# Altium footprint library Cuk_3ph_control.PcbLib: 28 footprints (part 1 of 2)
Each footprint in its own frame and in the unit in brackets; x right, y up, seen from the top. Pads: shape width x height; smd on the part's side, far side on the other; paste and mask are expansions set on the pad; w line width, h text height; cw(c..) or ccw(c..) is an arc to the next point about the centre after c.
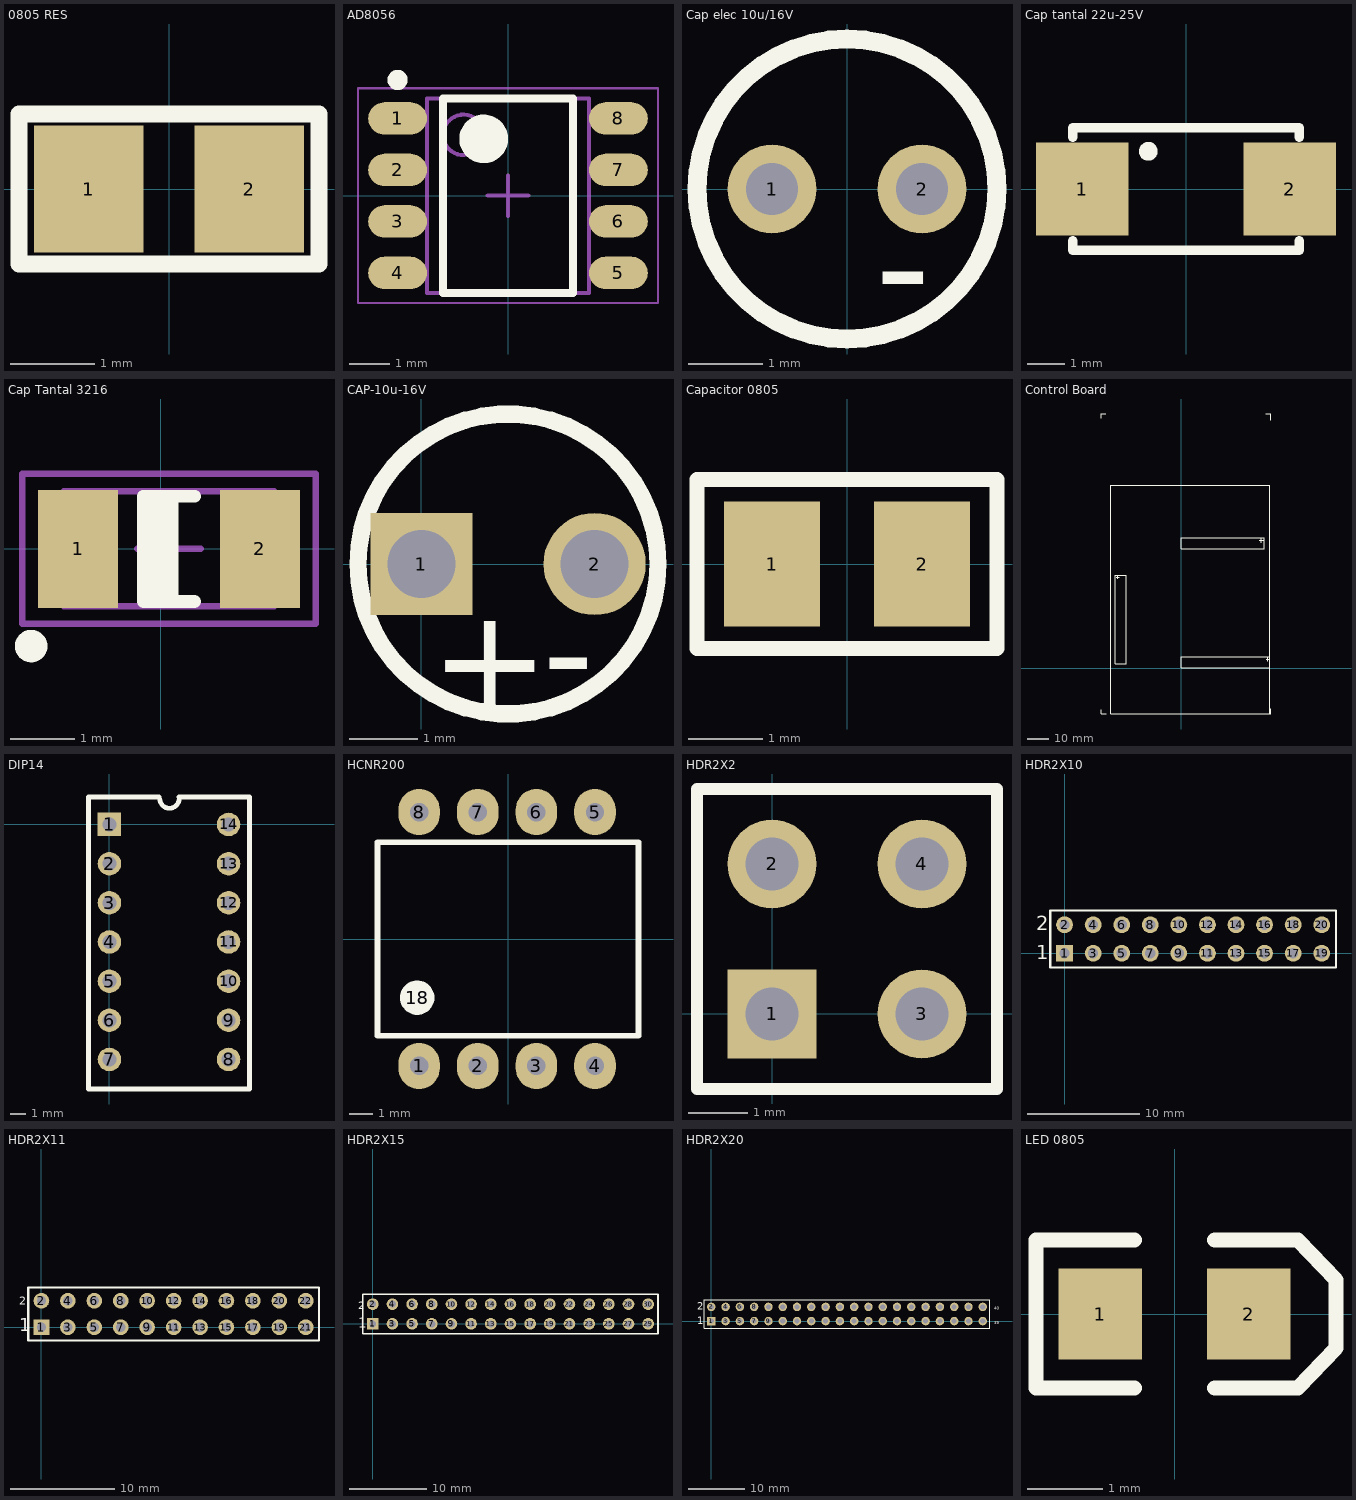
[diagram p0: the footprints below, top view; thin cyan lines are the x and y axes]

## 0805 RES [mm]
pads (2):
  rect 1.3x1.5 smd: 1(-0.95,0) 2(0.95,0)
Top Overlay:
  lines w0.2: -1.778,-0.889 1.778,-0.889 1.778,0.889 -1.778,0.889 -1.778,-0.865

## AD8056 [mm]
height 1.75
pads (8):
  oval 1.45x0.8 smd: 1(-2.725,1.905) 2(-2.725,0.635) 3(-2.725,-0.635) 4(-2.725,-1.905) 5(2.725,-1.905) 6(2.725,-0.635) 7(2.725,0.635) 8(2.725,1.905)
Top Overlay:
  circle w0.25: c-2.725,2.855 r0.125
  circle w0.6: c-0.6,1.4 r0.3
  lines w0.2: -1.6,-2.4 -1.6,2.4 1.6,2.4 1.6,-2.4 -1.6,-2.4
Mechanical 13:
  circle w0.1: c-1.1,1.5 r0.5
  lines w0.1: -2,-2.4 -2,2.4 2,2.4 2,-2.4 -2,-2.4
Mechanical 15:
  lines w0.05: -3.7,-2.65 -3.7,2.65 3.7,2.65 3.7,-2.65 -3.7,-2.65
  lines w0.1: -0.5,0 0.5,0 ; 0,-0.5 0,0.5
3D body: height 1.75, standoff 0.1, extent -2,-2.4 2,2.4

## Cap elec 10u/16V [mm]
height 5.3
pads (2):
  round 1.2 hole 0.7: 1(-1.016,0) 2(1.016,0)
Top Overlay:
  circle w0.254: c0,0 r2.032
  text "-" at 0.381,-1.778 h1.52

## Cap tantal 22u-25V [mm]
height 2.6
pads (2):
  rect 2.5x2.5 smd: 1(-2.794,0) 2(2.794,0)
Top Overlay:
  circle w0.254: c-1.016,1.016 r0.127
  lines w0.254: -3.048,-1.397 -3.048,-1.651 3.048,-1.651 3.048,-1.397 ; -3.048,1.397 -3.048,1.651 3.048,1.651 3.048,1.397

## Cap Tantal 3216 [mm]
pads (2):
  rect 1.25x1.85 smd: 1(-1.298,0) 2(1.552,0)
Top Overlay:
  circle w0.254: c-2.032,-1.524 r0.127
  rectangle: -0.273,-0.834 0.277,0.816
  lines w0.2: 0.527,-0.825 -0.273,-0.825 -0.273,0.825 0.527,0.825
Mechanical 13:
  lines w0.1: -1.523,-0.9 -1.523,0.9 1.777,0.9 1.777,-0.9 -1.523,-0.9
Mechanical 15:
  lines w0.1: -0.373,0 0.627,0 ; 0.127,-0.5 0.127,0.5 ; -2.173,-1.175 -2.173,1.175 2.427,1.175 2.427,-1.175 -2.173,-1.175
3D body: height 1.6, standoff 0, extent -1.523,-0.9 1.777,0.9

## CAP-10u-16V [mm]
pads (2):
  rect 1.5x1.5 hole 1: 1(0,0)
  round 1.5 hole 1: 2(2.54,0)
Top Overlay:
  circle w0.254: c1.27,0 r2.2
  text "+" at 0.127,-2.159 h1.52
  text "-" at 1.778,-2.032 h1.52

## Capacitor 0805 [mm]
pads (2):
  rect 1.3x1.7 smd: 1(-1.016,0) 2(1.016,0)
Top Overlay:
  lines w0.2: -2.032,-1.143 2.032,-1.143 2.032,1.143 -2.032,1.143 -2.032,0 -2.032,-1.143

## Control Board [mm]
Top Overlay:
  lines w0.1: -32.397,84.122 40.64,84.122 40.64,-20.828 -32.397,-20.828 -32.397,84.147
  lines w0.2: -30.328,1.981 -30.328,42.795 -25.248,42.795 -25.248,1.981 -30.328,1.981 ; -0.152,0.127 -0.152,5.207 40.662,5.207 40.662,0.127 -0.152,0.127 ; -0.098,54.982 38.1,54.982 38.1,60.062 -0.098,60.062 -0.098,54.982
  lines w0.254: -29.879,41.805 -28.431,41.805 ; -29.168,41.144 -29.168,42.414 ; 35.716,58.792 37.875,58.792 ; 36.732,57.776 36.732,60.062 ; 39.011,4.047 40.281,4.047 ; 39.671,3.311 39.671,4.758
  lines w0.3: -36.898,-19.015 -36.898,-21.017 -34.418,-21.017 ; -36.898,114.836 -36.898,116.868 -34.642,116.868 ; 38.739,116.868 41.152,116.868 41.152,113.947 ; 39.017,-20.999 41.176,-20.999 41.176,-18.616
3D body: height 50.8, standoff 22.86, extent -31.801,-26.238 31.778,-21.158
3D body: height 50.8, standoff 22.86, extent -36.898,-20.971 41.184,116.868
3D body: height 20.32, standoff 10, extent -32.245,-20.851 40.742,84.097

## DIP14 [mm]
pads (14):
  rect 1.5x1.5 hole 0.9: 1(0,0)
  round 1.5 hole 0.9: 2(0,-2.5) 3(0,-5) 4(0,-7.5) 5(0,-10) 6(0,-12.5) 7(0,-15) 8(7.6,-15) 9(7.6,-12.5) 10(7.6,-10) 11(7.6,-7.5) 12(7.6,-5) 13(7.6,-2.5) 14(7.6,0)
Top Overlay:
  lines w0.3: 3.175,1.758 -1.34,1.758 -1.34,-16.885 8.94,-16.885 8.94,1.758 4.425,1.758 ; 3.215,1.651 ccw(c3.83,1.651) 4.445,1.651

## HCNR200 [mm]
height 5
pads (9):
  oval 1.8x2 hole 0.8: 1(-3.85,-5.5) 2(-1.31,-5.5) 3(1.23,-5.5) 4(3.77,-5.5) 5(3.77,5.5) 6(1.23,5.5) 7(-1.31,5.5) 8(-3.85,5.5)
  round 1.5 on Top Overlay: 18(-3.937,-2.54)
Top Overlay:
  lines w0.254: -5.65,-4.191 -5.65,4.191 5.65,4.191 5.65,-4.191 -5.65,-4.191

## HDR2X2 [mm] "Connector; Header; 2x2 Position"
pads (4):
  rect 1.5x1.5 hole 0.9: 1(0,0)
  round 1.5 hole 0.9: 2(0,2.54) 3(2.54,0) 4(2.54,2.54)
Top Overlay:
  lines w0.2: -1.27,-1.27 -1.27,3.81 3.81,3.81 3.81,-1.27 -1.27,-1.27

## HDR2X10 [mm] "Connector; Header; 10x2 Position"
pads (20):
  rect 1.5x1.5 hole 0.9: 1(0,0)
  round 1.5 hole 0.9: 2(0,2.54) 3(2.54,0) 4(2.54,2.54) 5(5.08,0) 6(5.08,2.54) 7(7.62,0) 8(7.62,2.54) 9(10.16,0) 10(10.16,2.54) 11(12.7,0) 12(12.7,2.54) 13(15.24,0) 14(15.24,2.54) 15(17.78,0) 16(17.78,2.54) 17(20.32,0) 18(20.32,2.54) 19(22.86,0) 20(22.86,2.54)
Top Overlay:
  lines w0.2: -1.27,-1.27 0.635,-1.27 24.13,-1.27 24.13,3.81 0.635,3.81 -1.27,3.81 -1.27,-1.27
  text "1" at -2.54,-0.508 h1.27
  text "2" at -2.54,2.032 h1.27

## HDR2X11 [mm] "Connector; Header; 11x2 Position"
pads (22):
  rect 1.5x1.5 hole 0.9: 1(0,0)
  round 1.5 hole 0.9: 2(0,2.54) 3(2.54,0) 4(2.54,2.54) 5(5.08,0) 6(5.08,2.54) 7(7.62,0) 8(7.62,2.54) 9(10.16,0) 10(10.16,2.54) 11(12.7,0) 12(12.7,2.54) 13(15.24,0) 14(15.24,2.54) 15(17.78,0) 16(17.78,2.54) 17(20.32,0) 18(20.32,2.54) 19(22.86,0) 20(22.86,2.54) 21(25.4,0) 22(25.4,2.54)
Top Overlay:
  lines w0.2: -1.27,-1.27 26.67,-1.27 26.67,3.81 -1.27,3.81 -1.27,-1.27
  text "2" at -2.159,2.159 h0.76
  text "1" at -2.159,-0.381 h1.27

## HDR2X15 [mm] "Connector; Header; 15x2 Position"
pads (30):
  rect 1.5x1.5 hole 0.9: 1(0,0)
  round 1.5 hole 0.9: 2(0,2.54) 3(2.54,0) 4(2.54,2.54) 5(5.08,0) 6(5.08,2.54) 7(7.62,0) 8(7.62,2.54) 9(10.16,0) 10(10.16,2.54) 11(12.7,0) 12(12.7,2.54) 13(15.24,0) 14(15.24,2.54) 15(17.78,0) 16(17.78,2.54) 17(20.32,0) 18(20.32,2.54) 19(22.86,0) 20(22.86,2.54) 21(25.4,0) 22(25.4,2.54) 23(27.94,0) 24(27.94,2.54) 25(30.48,0) 26(30.48,2.54) 27(33.02,0) 28(33.02,2.54) 29(35.56,0) 30(35.56,2.54)
Top Overlay:
  lines w0.2: -1.27,-1.27 36.83,-1.27 36.83,3.81 -1.27,3.81 -1.27,-1.27
  text "1" at -1.905,-0.508 h1.27
  text "2" at -1.905,1.905 h1

## HDR2X20 [mm] "Connector; Header; 20x2 Position"
pads (40):
  rect 1.5x1.5 hole 0.9: 1(0,0)
  round 1.5 hole 0.9: 2(0,2.54) 3(2.54,0) 4(2.54,2.54) 5(5.08,0) 6(5.08,2.54) 7(7.62,0) 8(7.62,2.54) 9(10.16,0) 10(10.16,2.54) 11(12.7,0) 12(12.7,2.54) 13(15.24,0) 14(15.24,2.54) 15(17.78,0) 16(17.78,2.54) 17(20.32,0) 18(20.32,2.54) 19(22.86,0) 20(22.86,2.54) 21(25.4,0) 22(25.4,2.54) 23(27.94,0) 24(27.94,2.54) 25(30.48,0) 26(30.48,2.54) 27(33.02,0) 28(33.02,2.54) 29(35.56,0) 30(35.56,2.54) 31(38.1,0) 32(38.1,2.54) 33(40.64,0) 34(40.64,2.54) 35(43.18,0) 36(43.18,2.54) 37(45.72,0) 38(45.72,2.54) 39(48.26,0) 40(48.26,2.54)
Top Overlay:
  lines w0.2: -1.27,-1.27 -1.27,3.81 49.53,3.81 49.53,-1.27 -1.27,-1.27
  text "39" at 50.292,-0.508 h0.5
  text "40" at 50.292,2.032 h0.5
  text "2" at -2.54,2.032 h1.27
  text "1" at -2.54,-0.508 h1.27

## LED 0805 [mm]
pads (2):
  rect 1.1x1.2 smd: 1(-0.98,0) 2(0.98,0)
Top Overlay:
  lines w0.2: -0.53,-0.975 -1.83,-0.975 -1.83,0.975 -0.53,0.975 ; 0.53,-0.975 1.63,-0.975 2.13,-0.45 2.13,0.45 1.63,0.975 0.53,0.975